# EAGLE library part TLC2272ACD (library other)
TLC2272ACD, Dual Operational Amplifier 2.18MHz CMOS, R-R 5 to 15V, 8-Pin SOIC Source: Datasheet <http://www.ti.com/lit/ds/symlink/tlc2272a.pdf>
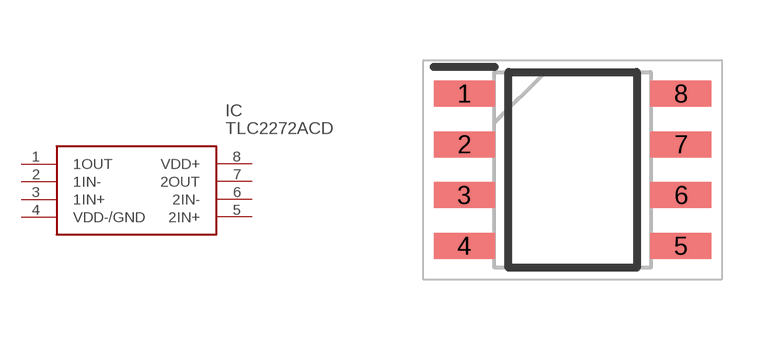
[diagram p3: symbol with the pads of SOIC127P600X175-8N; footprint SOIC127P600X175-8N]

Designator prefix IC

## TLC2272ACD (ARROW_PART_NUMBER: TLC2272ACD; ARROW_PRICE/STOCK: https://www.arrow.com/en/products/tlc2272acd/texas-instruments; DESCRIPTION: TLC2272ACD, Dual Operational Amplifier 2.18MHz CMOS, R-R 5 to 15V, 8-Pin SOIC; HEIGHT: 1.75mm; MANUFACTURER_NAME: Texas Instruments; MANUFACTURER_PART_NUMBER: TLC2272ACD; RS_PART_NUMBER: 6611570P; RS_PRICE/STOCK: http://uk.rs-online.com/web/p/products/6611570P)  [SOIC127P600X175-8N]
1  1OUT  out
2  1IN-  in
3  1IN+  in
4  VDD-/GND  pwr
5  2IN+  in
6  2IN-  in
7  2OUT  out
8  VDD+  pwr

## Footprint SOIC127P600X175-8N (pad centres in mm)
8 SO
smd 1.525 x 0.65: 1 -2.712,1.905; 2 -2.712,0.635; 3 -2.712,-0.635; 4 -2.712,-1.905; 5 2.712,-1.905; 6 2.712,-0.635; 7 2.712,0.635; 8 2.712,1.905